# EAGLE library part HMC5883 (library Mine)
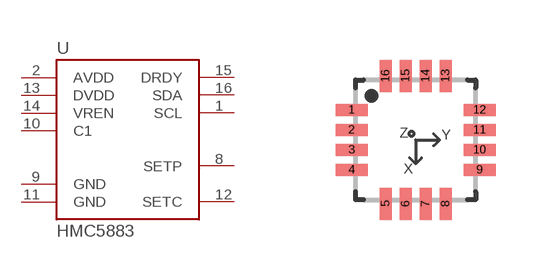
[diagram p3: symbol with the pads of HMC5883; footprint HMC5883]

Designator prefix U

## HMC5883  [HMC5883]
1  SCL
2  AVDD
8  SETP
9  GND
10  C1
11  GND
12  SETC
13  DVDD
14  VREN
15  DRDY
16  SDA

## Footprint HMC5883 (pad centres in mm)
smd 0.8 x 0.3: 1 -1.6,0.75; 2 -1.6,0.25; 3 -1.6,-0.25; 4 -1.6,-0.75; 9 1.6,-0.75; 10 1.6,-0.25; 11 1.6,0.25; 12 1.6,0.75
smd 0.3 x 0.8: 5 -0.75,-1.6; 6 -0.25,-1.6; 7 0.25,-1.6; 8 0.75,-1.6; 13 0.75,1.6; 14 0.25,1.6; 15 -0.25,1.6; 16 -0.75,1.6